# EAGLE library part HEADER-H2X3 (library CaliBeta-Conectores)
Conector header en angulo recto 2.54mm doble fila corriente maxima 3A
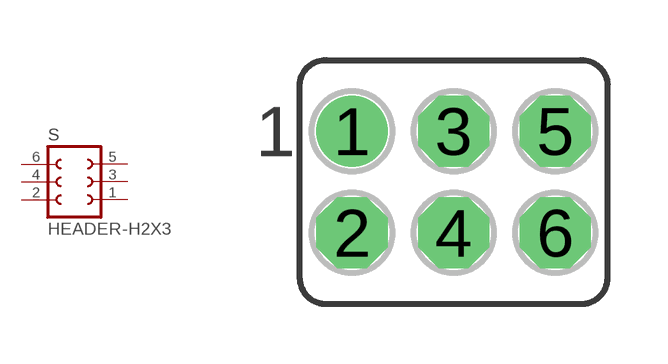
[diagram p1: symbol with the pads of HEADER-H2X3; footprint HEADER-H2X3]

Designator prefix S

## HEADER-H2X3  [HEADER-H2X3]
1  2  pas
2  1  pas
3  4  pas
4  3  pas
5  6  pas
6  5  pas

## Footprint HEADER-H2X3 (pad centres in mm)
Header hembra doble fila 6 pines
drill 0.8 pad 1.778: 1 -2.54,1.27
drill 0.8 pad 1.778 octagon: 2 -2.54,-1.27; 3 0,1.27; 4 0,-1.27; 5 2.54,1.27; 6 2.54,-1.27